# Altium footprint library PcbLib_Kur.PcbLib: 19 footprints (part 2 of 2)
Each footprint in its own frame and in the unit in brackets; x right, y up, seen from the top. Pads: shape width x height; smd on the part's side, far side on the other; paste and mask are expansions set on the pad; w line width, h text height; cw(c..) or ccw(c..) is an arc to the next point about the centre after c.
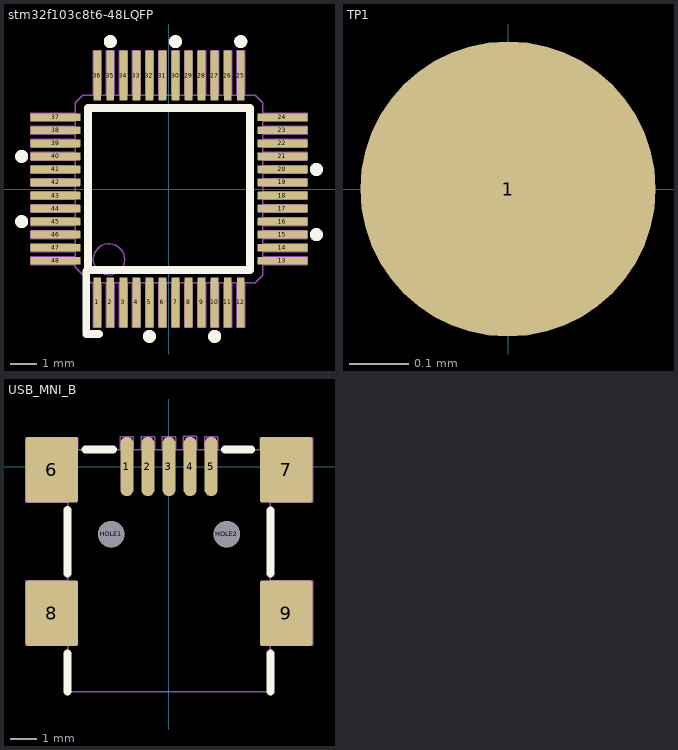
[diagram p1: the footprints below, top view; thin cyan lines are the x and y axes]

## stm32f103c8t6-48LQFP [mm] "LQFP-48"
height 1.6
pads (48):
  rrect10% 0.3x1.9 smd mask+0.05: 1(-2.75,-4.35) 2(-2.25,-4.35) 3(-1.75,-4.35) 4(-1.25,-4.35) 5(-0.75,-4.35) 6(-0.25,-4.35) 7(0.25,-4.35) 8(0.75,-4.35) 9(1.25,-4.35) 10(1.75,-4.35) 11(2.25,-4.35) 12(2.75,-4.35) 25(2.75,4.35) 26(2.25,4.35) 27(1.75,4.35) 28(1.25,4.35) 29(0.75,4.35) 30(0.25,4.35) 31(-0.25,4.35) 32(-0.75,4.35) 33(-1.25,4.35) 34(-1.75,4.35) 35(-2.25,4.35) 36(-2.75,4.35)
  rrect10% 1.9x0.3 smd mask+0.05: 13(4.35,-2.75) 14(4.35,-2.25) 15(4.35,-1.75) 16(4.35,-1.25) 17(4.35,-0.75) 18(4.35,-0.25) 19(4.35,0.25) 20(4.35,0.75) 21(4.35,1.25) 22(4.35,1.75) 23(4.35,2.25) 24(4.35,2.75) 37(-4.35,2.75) 38(-4.35,2.25) 39(-4.35,1.75) 40(-4.35,1.25) 41(-4.35,0.75) 42(-4.35,0.25) 43(-4.35,-0.25) 44(-4.35,-0.75) 45(-4.35,-1.25) 46(-4.35,-1.75) 47(-4.35,-2.25) 48(-4.35,-2.75)
Top Overlay:
  circle w0.3: c-0.75,-5.65 r0.1
  circle w0.3: c1.75,-5.65 r0.1
  circle w0.3: c5.65,0.75 r0.1
  circle w0.3: c2.75,5.65 r0.1
  circle w0.3: c0.25,5.65 r0.1
  circle w0.3: c-2.25,5.65 r0.1
  circle w0.3: c-5.65,1.25 r0.1
  circle w0.3: c-5.65,-1.25 r0.1
  circle w0.3: c5.65,-1.75 r0.1
  lines w0.3: -2.68,-5.56 -3.17,-5.56 -3.17,-3.16 -3.11,-3.1 -3.1,-3.1 ; -3.1,-3.1 3.1,-3.1 3.1,3.1 -3.1,3.1 -3.1,-3.1
Mechanical 2:
  drawing of 201 lines, arcs and shapes, not listed
  text "25" at 1.2,2.6 h0.8
  text "24" at 3.4,1.5 h0.8
  text "13" at 3.4,-2.9 h0.8
  text "12" at 1.3,-3.4 h0.8
  text "36" at -2.9,2.6 h0.8
  text "37" at -2.6,1.5 h0.8
  text "48" at -2.7,-2.5 h0.8
3D body "PT0048A.stp": height 1.56, standoff 0.06, extent -4.507,-4.508 4.508,4.508

## TP1 [mm]
pads (1):
  round 0.5 smd mask+0: 1(0,0)

## USB_MNI_B [mm] "USB_MINI_B 9.2mmX7.75mm"
height 4
pads (11):
  oval 0.5x2.25 smd: 1(-1.6,0) 2(-0.8,0) 3(0,0) 4(0.8,0) 5(1.6,0)
  rrect10% 2x2.5 smd: 6(-4.45,-0.125) 7(4.45,-0.125) 8(-4.45,-5.575) 9(4.45,-5.575)
  round 1 hole 1 mask+0.1: HOLE1(-2.2,-2.57) HOLE2(2.2,-2.57)
Top Overlay:
  lines w0.3: -3.85,-8.555 -3.85,-7.112 ; -3.85,-4.064 -3.85,-1.651 ; -3.175,0.645 -2.134,0.645 ; 2.134,0.645 3.124,0.645 ; 3.85,-8.555 3.85,-7.112 ; 3.85,-4.064 3.85,-1.676
Mechanical 2:
  lines w0.05: -3.85,-6.8 -5.435,-6.8 -5.435,-4.35 -3.85,-4.35 ; -3.85,-1.35 -5.45,-1.35 -5.45,1.1 -3.46,1.1 -3.46,0.645 ; -1.85,0.645 -1.85,1.13 -1.35,1.13 -1.35,0.645 ; -1.05,0.645 -1.05,1.13 -0.55,1.13 -0.55,0.645 ; -0.25,0.645 -0.25,1.13 0.25,1.13 0.25,0.645 ; 0.55,0.66 0.55,1.145 1.05,1.145 1.05,0.66 ; 1.35,0.645 1.35,1.13 1.85,1.13 1.85,0.645 ; 3.475,0.645 3.475,1.1 5.465,1.1 5.465,-1.35 3.85,-1.35 ; 3.85,-6.8 5.465,-6.8 5.465,-4.35 3.85,-4.35 ; -3.85,-8.555 -3.85,0.645 3.85,0.645 3.85,-8.555 -3.85,-8.555
  text "1" at -1.778,-2.54 h1.2
  text "5" at 1.27,-2.54 h1.2
3D body "User Library-USB_mini_B.step": height 3.95, standoff -1, extent -5.35,-8.517 5.35,0.683